# Altium footprint library PCB1.PcbLib: 17 footprints (part 2 of 2)
Each footprint in its own frame and in the unit in brackets; x right, y up, seen from the top. Pads: shape width x height; smd on the part's side, far side on the other; paste and mask are expansions set on the pad; w line width, h text height; cw(c..) or ccw(c..) is an arc to the next point about the centre after c.
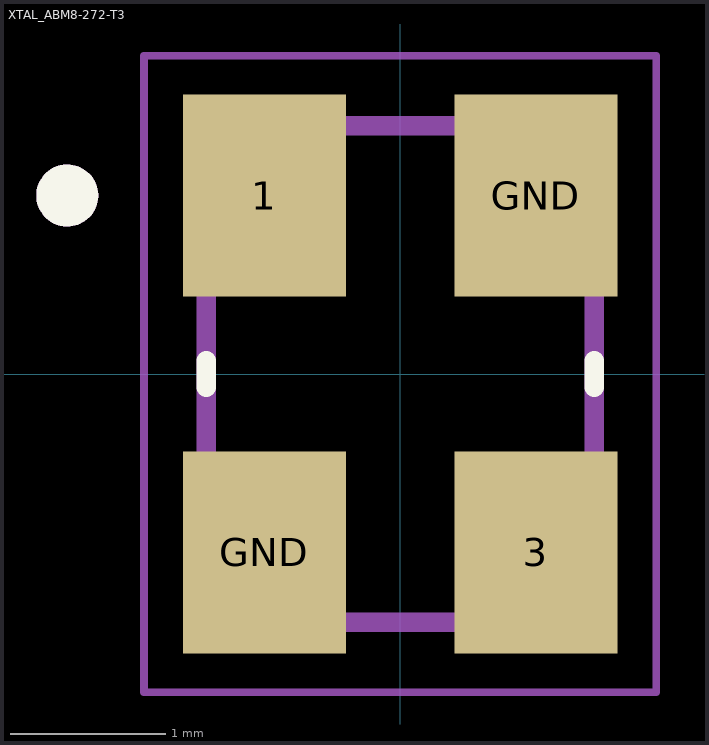
[diagram p1: the footprint, top view; thin cyan lines are the x and y axes]

## XTAL_ABM8-272-T3 [mm]
height 0.8
pads (4):
  rect 1.05x1.3 smd: 1(-0.875,1.15) 3(0.875,-1.15) GND(-0.875,-1.15) GND(0.875,1.15)
Top Overlay:
  circle w0.2: c-2.145,1.15 r0.1
  lines w0.127: -1.25,-0.085 -1.25,0.085 ; 1.25,-0.085 1.25,0.085
Mechanical 13:
  circle w0.2: c-2.145,1.15 r0.1
  lines w0.127: -1.25,-1.6 1.25,-1.6 1.25,1.6 -1.25,1.6 -1.25,-1.6
Mechanical 15:
  lines w0.05: -1.65,-2.05 1.65,-2.05 1.65,2.05 -1.65,2.05 -1.65,-2.05
3D body "step_temp.STEP": height 0.7, standoff 0, extent -1.25,-1.6 1.25,1.6